# Altium footprint library 28pin_Project_v01.PcbLib: 10 footprints
Each footprint in its own frame and in the unit in brackets; x right, y up, seen from the top. Pads: shape width x height; smd on the part's side, far side on the other; paste and mask are expansions set on the pad; w line width, h text height; cw(c..) or ccw(c..) is an arc to the next point about the centre after c.
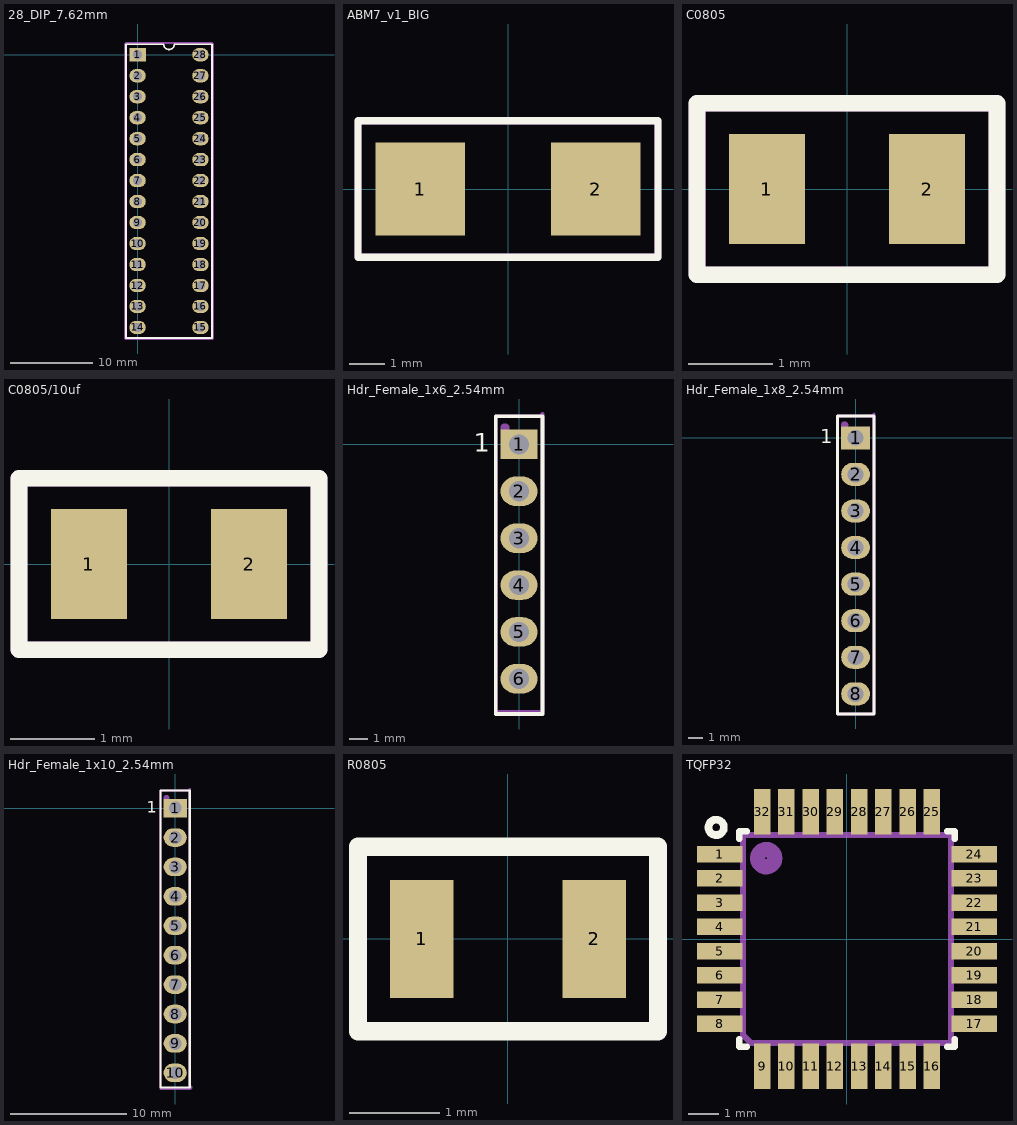
[diagram p0: the footprints below, top view; thin cyan lines are the x and y axes]

## 28_DIP_7.62mm [mm]
pads (28):
  rect 2x1.6 hole 1.1: 1(0,0)
  oval 2x1.6 hole 1.1: 2(0,-2.54) 3(0,-5.08) 4(0,-7.62) 5(0,-10.16) 6(0,-12.7) 7(0,-15.24) 8(0,-17.78) 9(0,-20.32) 10(0,-22.86) 11(0,-25.4) 12(0,-27.94) 13(0,-30.48) 14(0,-33.02) 15(7.62,-33.02) 16(7.62,-30.48) 17(7.62,-27.94) 18(7.62,-25.4) 19(7.62,-22.86) 20(7.62,-20.32) 21(7.62,-17.78) 22(7.62,-15.24) 23(7.62,-12.7) 24(7.62,-10.16) 25(7.62,-7.62) 26(7.62,-5.08) 27(7.62,-2.54) 28(7.62,0)
Top Overlay:
  lines w0.2: -1.397,-34.29 -1.397,1.27 3.175,1.27 ccw(c3.81,1.27) 4.445,1.27 9.017,1.27 9.017,-34.29 -1.397,-34.29
Mechanical 29:
  circle w0.5: c0,0 r0.5
  lines w0.254: -1.524,1.27 -1.524,-34.29 -1.397,-34.417 9.017,-34.417 9.144,-34.29 9.144,1.27 9.017,1.397 -1.397,1.397
  text "Designator" at 4.191,-19.812 h1.52
3D body "User Library-28 pin dip-2.step": height 4.85, standoff -1.37, extent 0,-34.48 7.874,1.461
3D body: height 0.25, standoff 0, extent -7.62,-12.192 -7.62,-12.192
3D body: height 0.25, standoff 0, extent 14.351,-22.225 14.351,-22.225
3D body: height 0.25, standoff 0, extent 18.415,-8.255 18.415,-8.255
3D body: height 0.25, standoff 0, extent 3.937,-16.129 3.937,-16.129

## ABM7_v1_BIG [mm]
pads (2):
  rect 2.5x2.6 smd: 1(-2.45,0) 2(2.45,0)
Top Overlay:
  lines w0.2: -4.191,-1.905 4.191,-1.905 4.191,1.905 -4.191,1.905 -4.191,-1.905
Mechanical 29:
  lines w0.2: 4.064,1.905 -4.191,1.905 -4.191,-1.905 4.191,-1.905 4.191,1.905
  text ".Designator" at -2.921,-0.381 h1.52
3D body "ABM7.STEP": height 1.41, standoff 0.01, extent -2.997,-1.753 2.997,1.753
3D body: height 1.45, standoff -1.75, extent 1.397,-2.413 1.397,-2.413
3D body: height 1.45, standoff 1.4, extent -2.286,-1.524 2.54,1.651

## C0805 [mm]
pads (2):
  rect 0.9x1.3 smd: 1(-0.95,0) 2(0.95,0)
Top Overlay:
  lines w0.2: -1.778,-1.016 -1.778,1.016 1.778,1.016 1.778,-1.016 -1.778,-1.016
Mechanical 29:
  lines w0.2: -1.778,-1.016 1.778,-1.016 1.778,1.016 -1.778,1.016 -1.778,-1.016
  text ".Designator" at -1.27,-0.254 h0.6
3D body "CAPC2012X94N EIA 0805.step": height 0.95, standoff 0.01, extent -1,-0.6 1,0.6

## C0805/10uf [mm]
pads (2):
  rect 0.9x1.3 smd: 1(-0.95,0) 2(0.95,0)
Top Overlay:
  lines w0.2: -1.778,-1.016 1.778,-1.016 1.778,1.016 -1.778,1.016 -1.778,-1.016
Mechanical 29:
  lines w0.2: -1.778,-1.016 -1.778,1.016 1.778,1.016 1.778,-1.016 -1.778,-1.016
  text ".Designator" at -1.27,-0.254 h0.6
3D body "CAPC2012X145N EIA 0805.step": height 1.46, standoff 0.01, extent -1,-0.6 1,0.6

## Hdr_Female_1x6_2.54mm [mm]
pads (6):
  rect 2x1.6 hole 1.1: 1(0,0)
  oval 2x1.6 hole 1.1: 2(0,-2.54) 3(0,-5.08) 4(0,-7.62) 5(0,-10.16) 6(0,-12.7)
Top Overlay:
  lines w0.2: -1.27,-14.605 1.27,-14.605 1.27,1.524 -1.27,1.524 -1.27,-14.605
  text "1" at -2.467,-0.381 h1
Mechanical 29:
  circle w0.254: c-0.762,0.889 r0.127
  lines w0.2: -1.27,0.635 -1.27,-14.478 1.27,-14.478 1.27,1.651 1.143,1.524 -1.27,1.524 -1.27,0.762
  text ".Designator" at 0.762,-13.843 h1.52
3D body "m20-7820646_asm.stp": height 8.31, standoff -3.19, extent -1.25,-14.17 1.25,1.47

## Hdr_Female_1x8_2.54mm [mm]
pads (8):
  rect 2x1.6 hole 1.1: 1(0,0)
  oval 2x1.6 hole 1.1: 2(0,-2.54) 3(0,-5.08) 4(0,-7.62) 5(0,-10.16) 6(0,-12.7) 7(0,-15.24) 8(0,-17.78)
Top Overlay:
  lines w0.2: -1.27,-19.177 -1.27,1.524 1.27,1.524 1.27,-19.177 -1.27,-19.177
  text "1" at -2.467,-0.381 h1
Mechanical 29:
  circle w0.254: c-0.762,0.889 r0.127
  lines w0.2: -1.27,0.635 -1.27,-19.177 -1.016,-19.177 1.27,-19.177 1.27,1.651 1.143,1.524 -1.27,1.524 -1.27,0.762
  text ".Designator" at 0.635,-16.637 h1.52
3D body "m20-7820842_asm.stp": height 8.51, standoff -2.99, extent -1.123,-19.123 1.377,1.597

## Hdr_Female_1x10_2.54mm [mm]
pads (10):
  rect 2x1.6 hole 1.1: 1(0,0)
  oval 2x1.6 hole 1.1: 2(0,-2.54) 3(0,-5.08) 4(0,-7.62) 5(0,-10.16) 6(0,-12.7) 7(0,-15.24) 8(0,-17.78) 9(0,-20.32) 10(0,-22.86)
Top Overlay:
  lines w0.2: -1.27,-24.13 1.27,-24.13 1.27,1.524 -1.27,1.524 -1.27,-24.13
  text "1" at -2.467,-0.381 h1
Mechanical 29:
  circle w0.254: c-0.762,0.889 r0.127
  lines w0.2: -1.27,0.635 -1.27,-23.876 -1.27,-24.257 1.27,-24.257 1.397,-24.13 1.27,-24.003 1.27,1.651 1.143,1.524 -1.27,1.524 -1.27,0.762
  text ".Designator" at 0.635,-16.637 h1.52
3D body "m20-7821046_asm.stp": height 8.31, standoff -3.19, extent -1.25,-24.33 1.25,1.47

## PCBComponent_1 [mm]

## R0805 [mm]
pads (2):
  rect 0.7x1.3 smd: 1(-0.95,0) 2(0.95,0)
Top Overlay:
  lines w0.2: -1.651,-1.016 -1.651,1.016 1.651,1.016 1.651,-1.016 -1.651,-1.016
3D body "User Library-RESC2012X___.step": height 0.69, standoff -0.01, extent -1,-0.6 1,0.6

## TQFP32 [mm]
pads (32):
  rect 1.5x0.55 smd mask+0.06: 1(-4.2,2.8) 2(-4.2,2) 3(-4.2,1.2) 4(-4.2,0.4) 5(-4.2,-0.4) 6(-4.2,-1.2) 7(-4.2,-2) 8(-4.2,-2.8) 17(4.2,-2.8) 18(4.2,-2) 19(4.2,-1.2) 20(4.2,-0.4) 21(4.2,0.4) 22(4.2,1.2) 23(4.2,2) 24(4.2,2.8)
  rect 0.55x1.5 smd mask+0.06: 9(-2.8,-4.2) 10(-2,-4.2) 11(-1.2,-4.2) 12(-0.4,-4.2) 13(0.4,-4.2) 14(1.2,-4.2) 15(2,-4.2) 16(2.8,-4.2) 25(2.8,4.2) 26(2,4.2) 27(1.2,4.2) 28(0.4,4.2) 29(-0.4,4.2) 30(-1.2,4.2) 31(-2,4.2) 32(-2.8,4.2)
Top Overlay:
  circle w0.254: c-4.318,3.683 r0.254
  lines w0.2: -3.556,-3.302 -3.556,-3.556 -3.302,-3.556 ; -3.556,3.302 -3.556,3.556 -3.302,3.556 ; 3.302,-3.556 3.556,-3.556 3.556,-3.302 ; 3.302,3.556 3.556,3.556 3.556,3.302
Mechanical 29:
  circle w0.5: c-2.667,2.667 r0.284
  lines w0.2: -3.429,-3.175 -3.175,-3.429 3.429,-3.429 3.429,3.429 -3.429,3.429 -3.429,-3.175
  text ".Designator" at -1.778,-0.635 h1.8
3D body "User Library-TQFP32-1.step": height 1.1, standoff 0, extent -4.509,-4.509 4.509,4.509
3D body: height 0.25, standoff 0, extent -6.731,-0.127 -6.731,-0.127